# Altium footprint library DDR5_Nucleo_Shield_Footprints.PcbLib: 41 footprints (part 2 of 3)
Each footprint in its own frame and in the unit in brackets; x right, y up, seen from the top. Pads: shape width x height; smd on the part's side, far side on the other; paste and mask are expansions set on the pad; w line width, h text height; cw(c..) or ccw(c..) is an arc to the next point about the centre after c.
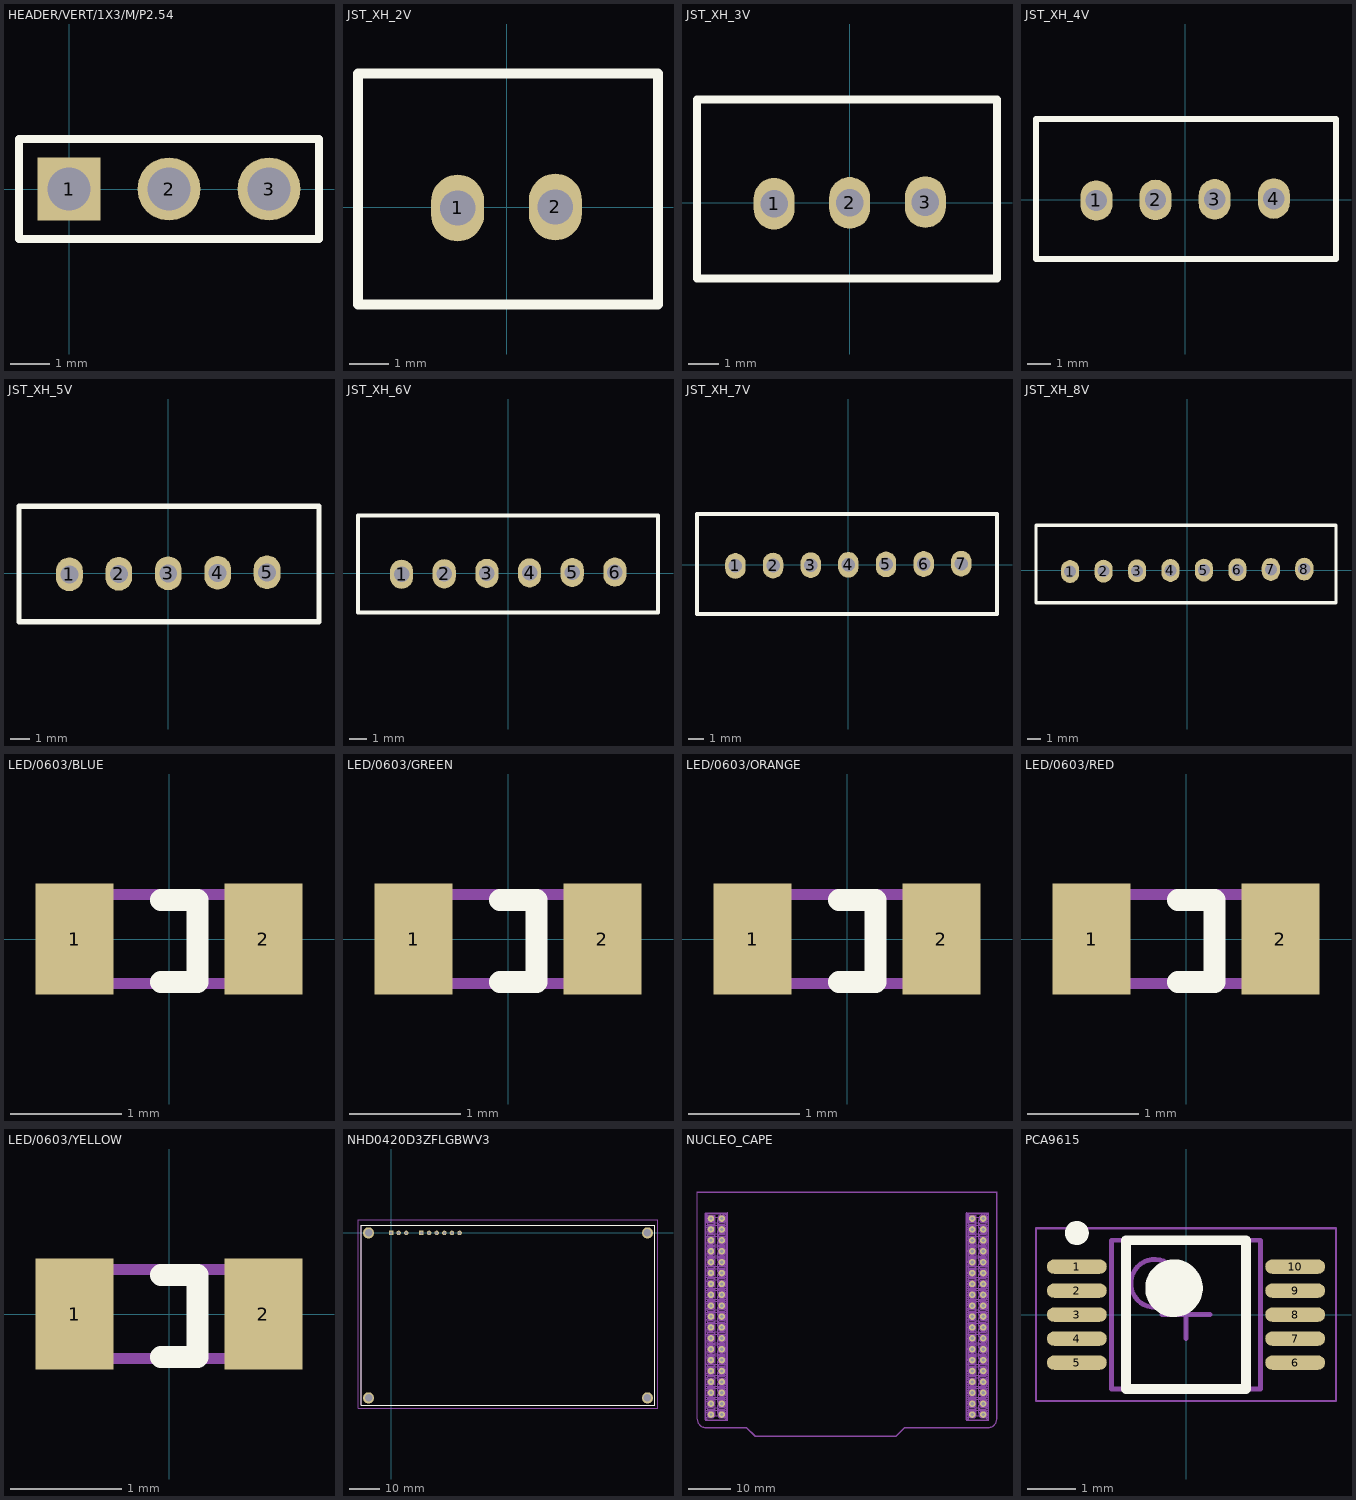
[diagram p1: the footprints below, top view; thin cyan lines are the x and y axes]

## HEADER/VERT/1X3/M/P2.54 [mm] "Connector; Header; Pitch 2.54mm; 3 Position Male"
height 8.54
pads (3):
  rect 1.6x1.6 hole 1.1: 1(0,0)
  round 1.6 hole 1.1: 2(2.54,0) 3(5.08,0)
Top Overlay:
  lines w0.2: -1.27,-1.27 6.35,-1.27 6.35,1.27 -1.27,1.27 -1.27,-1.27
3D body "1 way 61300111121.stp": height 8.67, standoff -2.87, extent 3.81,-1.27 6.35,1.27
3D body "1 way 61300111121.stp": height 8.67, standoff -2.87, extent 1.27,-1.27 3.81,1.27
3D body "1 way 61300111121.stp": height 8.67, standoff -2.87, extent -1.27,-1.27 1.27,1.27

## JST_XH_2V [mm]
pads (2):
  oval 1.35x1.7 hole 0.9: 1(-1.245,-0.013) 2(1.245,0.013)
Top Overlay:
  lines w0.254: -3.785,-2.476 -3.785,3.416 3.861,3.416 3.861,-2.476 -3.785,-2.476
3D body "B2B-XH-A.STEP": height 7, standoff -3.4, extent -3.666,-2.349 3.734,3.401

## JST_XH_3V [mm]
pads (3):
  oval 1.35x1.7 hole 0.9: 1(-2.489,-0.025) 2(0,0) 3(2.489,0.025)
Top Overlay:
  lines w0.254: -5.029,-2.489 -5.029,3.404 4.851,3.404 4.851,-2.489 -5.029,-2.489
3D body "B3B-XH-A.STEP": height 7, standoff -3.4, extent -4.95,-2.438 4.95,3.312

## JST_XH_4V [mm]
pads (4):
  oval 1.35x1.7 hole 0.9: 1(-3.734,-0.038) 2(-1.245,-0.013) 3(1.245,0.013) 4(3.734,0.038)
Top Overlay:
  lines w0.254: -6.274,-2.502 -6.274,3.391 6.35,3.391 6.35,-2.502 -6.274,-2.502
3D body "B4B-XH-A.STEP": height 7, standoff -3.4, extent -6.175,-2.375 6.225,3.375

## JST_XH_5V [mm]
pads (5):
  oval 1.35x1.7 hole 0.9: 1(-4.978,-0.051) 2(-2.489,-0.025) 3(0,0) 4(2.489,0.025) 5(4.978,0.051)
Top Overlay:
  lines w0.254: -7.518,-2.438 7.595,-2.438 7.595,3.378 -7.518,3.378 -7.518,-2.438
3D body "B5B-XH-A.STEP": height 7, standoff -3.4, extent -7.45,-2.362 7.45,3.388

## JST_XH_6V [mm]
pads (6):
  oval 1.35x1.7 hole 0.9: 1(-6.223,-0.064) 2(-3.734,-0.038) 3(-1.245,-0.013) 4(1.245,0.013) 5(3.734,0.038) 6(6.223,0.064)
Top Overlay:
  lines w0.254: -8.763,-2.299 -8.763,3.365 8.738,3.365 8.738,-2.299 -8.763,-2.299
3D body "B6B-XH-A.STEP": height 7, standoff -3.4, extent -8.751,-2.385 8.649,3.365

## JST_XH_7V [mm]
pads (7):
  oval 1.35x1.7 hole 0.9: 1(-7.468,-0.076) 2(-4.978,-0.051) 3(-2.489,-0.025) 4(0,0) 5(2.489,0.025) 6(4.978,0.051) 7(7.468,0.076)
Top Overlay:
  lines w0.254: -10.008,-3.251 -10.008,3.353 9.83,3.353 9.83,-3.251 -10.008,-3.251
3D body "B7B-XH-2.STEP": height 7, standoff -3.4, extent -9.95,-3.296 9.95,3.454

## JST_XH_8V [mm]
pads (8):
  oval 1.35x1.7 hole 0.9: 1(-8.712,-0.089) 2(-6.223,-0.064) 3(-3.734,-0.038) 4(-1.245,-0.013) 5(1.245,0.013) 6(3.734,0.038) 7(6.223,0.064) 8(8.712,0.089)
Top Overlay:
  lines w0.254: 11.074,3.34 -11.252,3.34 -11.252,-2.426 11.074,-2.426 11.074,3.365
3D body "B8B-XH-A.STEP": height 7, standoff -3.4, extent -11.251,-2.299 11.149,3.451

## LED/0603/BLUE [mm] "LED 0603 Package Blue Colour"
height 0.8
pads (2):
  rect 0.7x1 smd: 1(-0.85,0) 2(0.85,0)
Top Overlay:
  lines w0.2: -0.071,-0.386 0.256,-0.386 0.256,0.35 -0.071,0.35
Mechanical 8:
  lines w0.1: -0.8,-0.4 0.8,-0.4 0.8,0.4 -0.8,0.4 -0.8,-0.4
3D body "LED SMD0603BLUE.STEP": height 0.68, standoff 0, extent -0.851,-0.369 0.8,0.356

## LED/0603/GREEN [mm] "LED 0603 Package Green Colour"
height 0.8
pads (2):
  rect 0.7x1 smd: 1(-0.85,0) 2(0.85,0)
Top Overlay:
  lines w0.2: -0.071,-0.386 0.256,-0.386 0.256,0.35 -0.071,0.35
Mechanical 8:
  lines w0.1: -0.8,-0.4 0.8,-0.4 0.8,0.4 -0.8,0.4 -0.8,-0.4
3D body "LED SMD0603GREEN.STEP": height 0.68, standoff 0, extent -0.851,-0.369 0.8,0.356

## LED/0603/ORANGE [mm] "LED 0603 Package Orange Colour"
height 0.8
pads (2):
  rect 0.7x1 smd: 1(-0.85,0) 2(0.85,0)
Top Overlay:
  lines w0.2: -0.071,-0.386 0.256,-0.386 0.256,0.35 -0.071,0.35
Mechanical 8:
  lines w0.1: -0.8,-0.4 -0.8,0.4 0.8,0.4 0.8,-0.4 -0.8,-0.4
3D body "LED SMD0603YELLOW.STEP": height 0.68, standoff 0, extent -0.851,-0.369 0.8,0.356

## LED/0603/RED [mm] "LED 0603 Package Red Colour"
height 0.8
pads (2):
  rect 0.7x1 smd: 1(-0.85,0) 2(0.85,0)
Top Overlay:
  lines w0.2: -0.071,-0.386 0.256,-0.386 0.256,0.35 -0.071,0.35
Mechanical 8:
  lines w0.1: -0.8,-0.4 -0.8,0.4 0.8,0.4 0.8,-0.4 -0.8,-0.4
3D body "LED SMD0603RED.STEP": height 0.68, standoff 0, extent -0.851,-0.369 0.8,0.356

## LED/0603/YELLOW [mm] "LED 0603 Package Yellow Colour"
height 0.8
pads (2):
  rect 0.7x1 smd: 1(-0.85,0) 2(0.85,0)
Top Overlay:
  lines w0.2: -0.071,-0.386 0.256,-0.386 0.256,0.35 -0.071,0.35
Mechanical 8:
  lines w0.1: -0.8,-0.4 -0.8,0.4 0.8,0.4 0.8,-0.4 -0.8,-0.4
3D body "LED SMD0603YELLOW.STEP": height 0.68, standoff 0, extent -0.851,-0.369 0.8,0.356

## NHD0420D3ZFLGBWV3 [mm]
pads (13):
  rect 1.5x1.5 hole 1: J11(0,0) J21(10.16,0)
  round 1.5 hole 1: J12(2.54,0) J13(5.08,0) J22(12.7,0) J23(15.24,0) J24(17.78,0) J25(20.32,0) J26(22.86,0)
  round 3.75 hole 2.5: MH1(-7.5,-55) MH2(-7.5,0) MH3(85.5,0) MH4(85.5,-55)
Top Overlay:
  lines w0.1: -10,-57.5 88,-57.5 88,2.5 -10,2.5 -10,-57.5
  lines w0.2: -0.14,3.4 ccw(c-0.09,3.4) -0.04,3.4 ; -0.14,3.4 cw(c-0.09,3.4) -0.04,3.4 ; -0.14,3.4 ccw(c-0.09,3.4) -0.04,3.4
Mechanical 15:
  lines w0.2: -10,-57.5 88,-57.5 88,2.5 -10,2.5 -10,-57.5
Mechanical 20:
  lines w0.1: -11,-58.5 89,-58.5 89,4.45 -11,4.45 -11,-58.5
3D body "NHD-0420D3Z-FL-GBW-V3.stp": height 10.91, standoff -2.45, extent -9.884,-57.432 88.116,2.568

## NUCLEO_CAPE [mil]
pads (76):
  round 60 hole 30: 1(-42590.84,-41964.7) 2(-42490.84,-41964.7) 3(-42590.84,-42064.7) 4(-42490.84,-42064.7) 5(-42590.84,-42164.7) 6(-42490.84,-42164.7) 7(-42590.84,-42264.7) 8(-42490.84,-42264.7) 9(-42590.84,-42364.7) 10(-42490.84,-42364.7) 11(-42590.84,-42464.7) 12(-42490.84,-42464.7) 13(-42590.84,-42564.7) 14(-42490.84,-42564.7) 15(-42590.84,-42664.7) 16(-42490.84,-42664.7) 17(-42590.84,-42764.7) 18(-42490.84,-42764.7) 19(-42590.84,-42864.7) 20(-42490.84,-42864.7) 21(-42590.84,-42964.7) 22(-42490.84,-42964.7) 23(-42590.84,-43064.7) 24(-42490.84,-43064.7) 25(-42590.84,-43164.7) 26(-42490.84,-43164.7) 27(-42590.84,-43264.7) 28(-42490.84,-43264.7) 29(-42590.84,-43364.7) 30(-42490.84,-43364.7) 31(-42590.84,-43464.7) 32(-42490.84,-43464.7) 33(-42590.84,-43564.7) 34(-42490.84,-43564.7) 35(-42590.84,-43664.7) 36(-42490.84,-43664.7) 37(-42590.84,-43764.7) 38(-42490.84,-43764.7) 39(-40190,-41964.7) 40(-40090,-41964.7) 41(-40190,-42064.7) 42(-40090,-42064.7) 43(-40190,-42165) 44(-40090,-42165) 45(-40190,-42264.7) 46(-40090,-42264.7) 47(-40190,-42364.7) 48(-40090,-42364.7) 49(-40190,-42464.7) 50(-40090,-42464.7) 51(-40190,-42564.7) 52(-40090,-42564.7) 53(-40190,-42665) 54(-40090,-42664.7) 55(-40190,-42764.7) 56(-40090,-42764.7) 57(-40190,-42865) 58(-40090,-42864.7) 59(-40190,-42964.7) 60(-40090,-42964.7) 61(-40190,-43064.7) 62(-40090,-43064.7) 63(-40190,-43164.7) 64(-40090,-43164.7) 65(-40190,-43264.7) 66(-40090,-43264.7) 67(-40190,-43364.7) 68(-40090,-43364.7) 69(-40190,-43464.7) 70(-40090,-43464.7) 71(-40190,-43564.7) 72(-40090,-43564.7) 73(-40190,-43665) 74(-40090,-43664.7) 75(-40190,-43765) 76(-40090,-43765)
Mechanical 1:
  drawing of 4716 lines, arcs and shapes, not listed

## PCA9615 [mm] "TSSOP, 10-Leads, Body 3,00x3,00mm, Pitch 0,50mm, IPC Medium Density"
height 1.1
pads (10):
  oval 1.25x0.3 smd: 1(-2.275,1) 2(-2.275,0.5) 3(-2.275,0) 4(-2.275,-0.5) 5(-2.275,-1) 6(2.275,-1) 7(2.275,-0.5) 8(2.275,0) 9(2.275,0.5) 10(2.275,1)
Top Overlay:
  circle w0.6: c-0.25,0.55 r0.3
  circle w0.25: c-2.275,1.7 r0.125
  lines w0.2: -1.25,-1.55 1.25,-1.55 1.25,1.55 -1.25,1.55 -1.25,-1.55
Mechanical 13:
  circle w0.1: c-0.65,0.65 r0.5
  lines w0.1: -1.55,-1.55 1.55,-1.55 1.55,1.55 -1.55,1.55 -1.55,-1.55
Mechanical 15:
  lines w0.05: -3.125,-1.8 3.125,-1.8 3.125,1.8 -3.125,1.8 -3.125,-1.8
  lines w0.1: -0.5,0 0.5,0 ; 0,-0.5 0,0.5
3D body "TSSOP50P490X110-10N.step": height 1.1, standoff 0, extent -2.45,-1.55 2.45,1.55